# Altium schematic symbol library ch340G.SchLib: 1 symbol
Pins are listed as number, name and electrical type; pins without a type are passive.

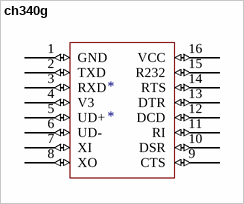
[diagram p0: symbol ch340g]

## ch340g
designator *
pins: 1 GND (io), 2 TXD (io), 3 RXD (io), 4 V3 (io), 5 UD+ (io), 6 UD- (io), 7 XI (io), 8 XO (io), 9 CTS (io), 10 DSR (io), 11 RI (io), 12 DCD (io), 13 DTR (io), 14 RTS (io), 15 R232 (io), 16 VCC (io)